# Altium footprint library Y001_Artix7_USB3.0_D0.PcbLib: 33 footprints (part 2 of 3)
Each footprint in its own frame and in the unit in brackets; x right, y up, seen from the top. Pads: shape width x height; smd on the part's side, far side on the other; paste and mask are expansions set on the pad; w line width, h text height; cw(c..) or ccw(c..) is an arc to the next point about the centre after c.
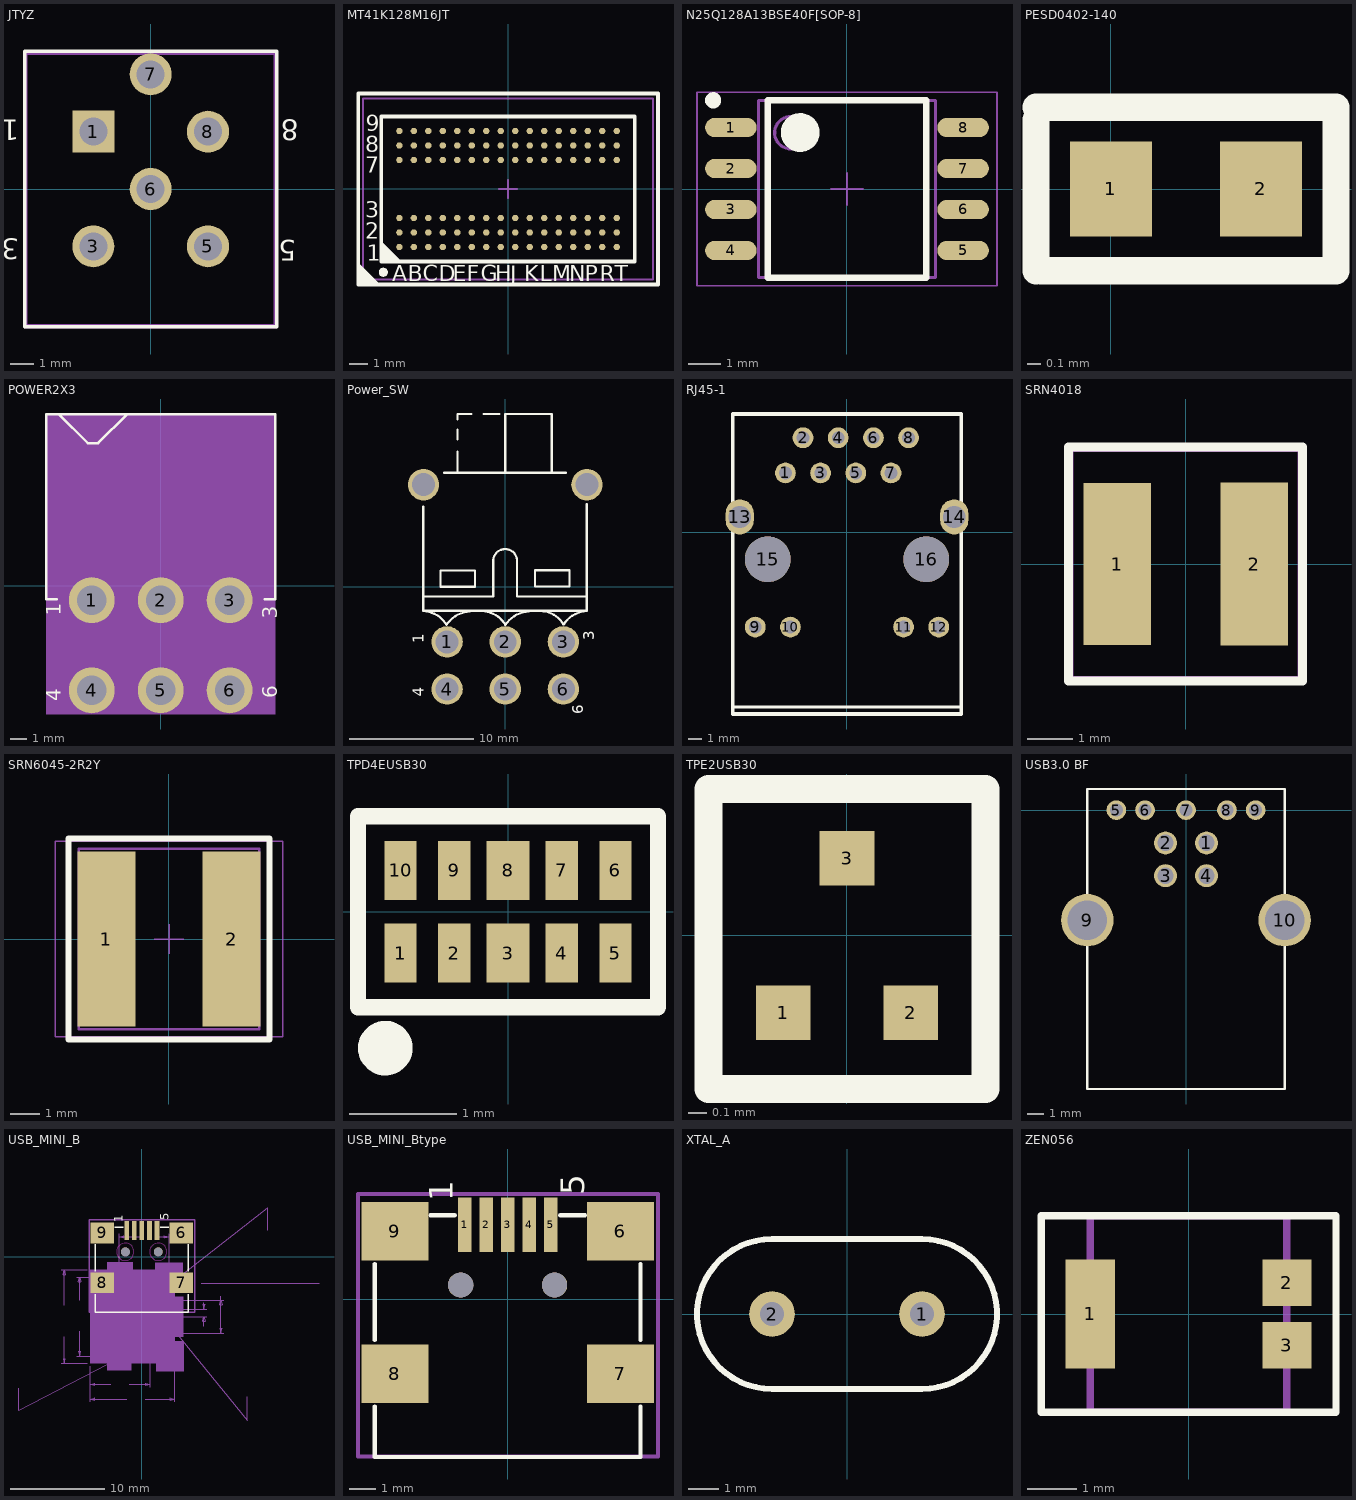
[diagram p1: the footprints below, top view; thin cyan lines are the x and y axes]

## JTYZ [mil]
pads (6):
  rect 72x72 hole 48: 1(-98.42,99.21)
  round 72 hole 48: 3(-98.42,-97.64) 5(98.43,-97.64) 6(0,0.79) 7(0,197.64) 8(98.43,99.21)
Top Overlay:
  lines w6: -216.53,-235.43 0,-235.43 216.54,-235.43 216.54,237.01 -216.53,237.01 -216.53,-235.43
  text "1" at -226,120 h35
  text "3" at -226,-85 h35
  text "5" at 250,-87 h35
  text "8" at 254,120 h35
Mechanical 15:
  lines w7.87: -215,-235 215,-235 215,235 -215,235 -215,-235

## MT41K128M16JT [mm]
pads (96):
  round 0.35 smd: A1(-6,-3.2) A2(-6,-2.4) A3(-6,-1.6) A7(-6,1.6) A8(-6,2.4) A9(-6,3.2) B1(-5.2,-3.2) B2(-5.2,-2.4) B3(-5.2,-1.6) B7(-5.2,1.6) B8(-5.2,2.4) B9(-5.2,3.2) C1(-4.4,-3.2) C2(-4.4,-2.4) C3(-4.4,-1.6) C7(-4.4,1.6) C8(-4.4,2.4) C9(-4.4,3.2) D1(-3.6,-3.2) D2(-3.6,-2.4) D3(-3.6,-1.6) D7(-3.6,1.6) D8(-3.6,2.4) D9(-3.6,3.2) E1(-2.8,-3.2) E2(-2.8,-2.4) E3(-2.8,-1.6) E7(-2.8,1.6) E8(-2.8,2.4) E9(-2.8,3.2) F1(-2,-3.2) F2(-2,-2.4) F3(-2,-1.6) F7(-2,1.6) F8(-2,2.4) F9(-2,3.2) G1(-1.2,-3.2) G2(-1.2,-2.4) G3(-1.2,-1.6) G7(-1.2,1.6) G8(-1.2,2.4) G9(-1.2,3.2) H1(-0.4,-3.2) H2(-0.4,-2.4) H3(-0.4,-1.6) H7(-0.4,1.6) H8(-0.4,2.4) H9(-0.4,3.2) J1(0.4,-3.2) J2(0.4,-2.4) J3(0.4,-1.6) J7(0.4,1.6) J8(0.4,2.4) J9(0.4,3.2) K1(1.2,-3.2) K2(1.2,-2.4) K3(1.2,-1.6) K7(1.2,1.6) K8(1.2,2.4) K9(1.2,3.2) L1(2,-3.2) L2(2,-2.4) L3(2,-1.6) L7(2,1.6) L8(2,2.4) L9(2,3.2) M1(2.8,-3.2) M2(2.8,-2.4) M3(2.8,-1.6) M7(2.8,1.6) M8(2.8,2.4) M9(2.8,3.2) N1(3.6,-3.2) N2(3.6,-2.4) N3(3.6,-1.6) N7(3.6,1.6) N8(3.6,2.4) N9(3.6,3.2) P1(4.4,-3.2) P2(4.4,-2.4) P3(4.4,-1.6) P7(4.4,1.6) P8(4.4,2.4) P9(4.4,3.2) R1(5.2,-3.2) R2(5.2,-2.4) R3(5.2,-1.6) R7(5.2,1.6) R8(5.2,2.4) R9(5.2,3.2) T1(6,-3.2) T2(6,-2.4) T3(6,-1.6) T7(6,1.6) T8(6,2.4) T9(6,3.2)
Top Overlay:
  circle w0.25: c-6.883,-4.595 r0.125
  region: -7.01,-3.031 -6.01,-4.031 -7.01,-4.031
  region: -8.28,-4.224 -7.28,-5.224 -8.28,-5.224
  lines w0.2: -8.276,-4.187 -7.192,-5.27 -8.264,-5.27 -8.264,5.27 8.276,5.27 8.276,-5.27 -7.332,-5.27 ; -7,-3 -6,-4 ; -7,-4 7,-4 7,4 -7,4 -7,-4
  text "9" at -7.849,3.175 h0.89
  text "8" at -7.874,2.032 h0.89
  text "7" at -7.874,0.889 h0.89
  text "3" at -7.874,-1.575 h0.89
  text "2" at -7.874,-2.743 h0.89
  text "1" at -7.798,-3.962 h0.89
  text "A" at -6.401,-5.08 h0.89
  text "B" at -5.544,-5.1 h0.89
  text "C" at -4.694,-5.1 h0.89
  text "D" at -3.817,-5.1 h0.89
  text "E" at -3.043,-5.1 h0.89
  text "F" at -2.268,-5.1 h0.89
  text "G" at -1.519,-5.1 h0.89
  text "H" at -0.719,-5.1 h0.89
  text "J" at 0.114,-5.125 h0.89
  text "K" at 0.881,-5.1 h0.89
  text "L" at 1.757,-5.1 h0.89
  text "M" at 2.439,-5.1 h0.89
  text "N" at 3.382,-5.1 h0.89
  text "P" at 4.232,-5.1 h0.89
  text "R" at 5.065,-5.1 h0.89
  text "T" at 5.884,-5.1 h0.89
Mechanical 13:
  lines w0.1: 7,-4 -7,-4 ; 7,4 -7,4 ; -7,-4 -7,4 ; -7,-4 -7,4
Mechanical 15:
  lines w0.1: -0.5,0 0.5,0 ; 0,-0.5 0,0.5 ; -8,-5 8,-5 8,5 -8,5 -8,-5
3D body: height 1.1, standoff 0, extent -7.01,-3.988 6.985,4.013

## N25Q128A13BSE40F[SOP-8] [mm]
pads (8):
  oval 1.6x0.6 smd: 1(-3.6,1.905) 2(-3.6,0.635) 3(-3.6,-0.635) 4(-3.6,-1.905) 5(3.6,-1.905) 6(3.6,-0.635) 7(3.6,0.635) 8(3.6,1.905)
Top Overlay:
  circle w0.6: c-1.45,1.75 r0.3
  circle w0.25: c-4.15,2.75 r0.125
  lines w0.2: -2.45,-2.75 -2.45,2.75 2.45,2.75 2.45,-2.75 -2.45,-2.75
Mechanical 15:
  circle w0.1: c-1.745,1.745 r0.5
  lines w0.1: -2.745,-2.745 -2.745,2.745 2.745,2.745 2.745,-2.745 -2.745,-2.745
Mechanical 20:
  lines w0.05: -0.5,0 0.5,0 ; 0,-0.5 0,0.5 ; -4.65,-3 -4.65,3 4.65,3 4.65,-3 -4.65,-3
Mechanical 21:
  lines w0.001: -2.745,-2.745 -2.745,2.745 2.745,2.745 2.745,-2.745 -2.745,-2.745

## PESD0402-140 [mm]
pads (2):
  rect 0.6x0.7 smd: 1(0,0) 2(1.1,0)
Top Overlay:
  lines w0.2: -0.55,-0.6 -0.55,0.508 ; -0.55,0.6 1.651,0.6 1.651,-0.6 -0.508,-0.6

## POWER2X3 [mil]
pads (6):
  round 110 hole 71: 1(-165.35,-35.09) 2(0,-35.09) 3(165.35,-35.09) 4(-165.35,-251.63) 5(0,-251.63) 6(165.35,-251.63)
Top Overlay:
  lines w6: -250,-33.37 -275,-33.37 -275,411.63 275,411.63 275,-33.37 250,-33.37 ; -245,411.63 -175,341.63 -150,341.63 -80,411.63
  text "6" at 280,-270 h35
  text "4" at -240,-277.37 h35
  text "3" at 280,-80 h35
  text "1" at -240,-72.36 h35
Mechanical 32:
  pour cut-out: 275,-308.37 275,411.63 -275,411.63 -275,-308.37
  region: 275,-308.37 275,411.63 -275,411.63 -275,-308.37
  text ".Designator" at -100,-403.37 h50
  text "3" at 165.35,-55.09 h50
  text "6" at 165.35,-271.63 h50
  text "4" at -165.35,-271.63 h50
  text "1" at -165.35,-55.09 h50
  text "2" at 0,-55.09 h50
  text "5" at 0,-271.63 h50

## Power_SW [mil]
pads (8):
  round 100 hole 73: 1(-185,-175) 2(0,-175) 3(185,-175) 4(-185,-325) 5(0,-325) 6(185,-325) " "(-260,325) " "(260,325)
Top Overlay:
  lines w7: -260.77,256.1 -260.77,-75.97 259.6,-75.97 259.6,262.82 ; -260.65,-30.36 -38.04,-30.36 -38.04,85.72 cw(c-0.2,82.43) 37.63,85.72 37.63,-30.36 258.77,-30.36 ; -251.66,-78.67 cw(c-260.44,-162.34) -187.01,-121.28 cw(c-106.45,-174.11) -112.07,-77.94 ; -194.88,363.09 193.72,363.09 ; -151.85,363.09 -151.85,430.32 ; -151.85,469.32 -151.85,500.25 ; -151.85,532.52 -151.85,550 -107.48,550 ; -68.48,550 -18.73,550 ; -64.32,-78.67 cw(c-73.09,-162.34) 0.34,-121.28 cw(c80.9,-174.11) 75.27,-77.94 ; 0.09,363.09 0.09,550 148,550 148,364.44 ; 120.65,-77.38 cw(c111.87,-161.05) 185.3,-119.99 cw(c265.86,-172.81) 260.24,-76.64 ; -206.28,0.5 -206.28,51.93 -96.08,51.93 -96.08,0.5 -206.28,0.5 ; 94.37,1.41 94.37,52.84 204.58,52.84 204.58,1.41 94.37,1.41
  text "3" at 283.31,-169.44 h35
  text "6" at 248.31,-404.44 h35
  text "1" at -260,-180 h35
  text "4" at -260,-350.33 h35

## RJ45-1 [mm]
pads (16):
  round 1.5 hole 0.914: 1(-4.445,4.293) 2(-3.175,6.833) 3(-1.905,4.293) 4(-0.635,6.833) 5(0.635,4.293) 6(1.905,6.833) 7(3.175,4.293) 8(4.445,6.833) 9(-6.625,-6.832) 10(-4.085,-6.832) 11(4.085,-6.832) 12(6.625,-6.832)
  oval 2.032x2.54 hole 1.6: 13(-7.745,1.118) 14(7.745,1.118)
  round 3.3 hole 3.3: 15(-5.715,-1.932) 16(5.715,-1.932)
Top Overlay:
  lines w0.2: -8.255,-12.6 8.255,-12.6
  lines w0.254: -8.255,8.482 -8.255,-13.108 8.255,-13.108 8.255,8.482 ; -8.255,8.548 8.255,8.548
3D body: height 13.51, standoff -3.99, extent -7.879,-12.732 8.001,8.668

## SRN4018 [mm]
pads (2):
  rect 1.5x3.6 smd: 1(-1.525,0)
  rect 1.5x3.63 smd: 2(1.525,0)
Top Overlay:
  lines w0.2: -2.6,-2.6 -2.6,2.6 2.6,2.6 2.6,-2.6 -2.6,-2.6
Mechanical 15:
  lines w0.1: -2.54,-2.54 -2.54,2.54 2.54,2.54 2.54,-2.54 -2.54,-2.54

## SRN6045-2R2Y [mm]
pads (2):
  rect 2x6 smd: 1(-2.15,0) 2(2.15,0)
Top Overlay:
  lines w0.2: -3.45,-3.45 -3.45,3.45 3.45,3.45 3.45,-3.45 -3.45,-3.45
Mechanical 15:
  lines w0.1: -3.1,-3.1 -3.1,3.1 3.1,3.1 3.1,-3.1 -3.1,-3.1
Mechanical 20:
  lines w0.05: -0.5,0 0.5,0 ; 0,-0.5 0,0.5 ; -3.9,-3.35 -3.9,3.35 3.9,3.35 3.9,-3.35 -3.9,-3.35
Mechanical 21:
  lines w0.001: -3.1,-3.1 -3.1,3.1 3.1,3.1 3.1,-3.1 -3.1,-3.1

## TPD4EUSB30 [mm]
pads (10):
  rect 0.3x0.55 smd: 1(-1,-0.385) 2(-0.5,-0.385) 4(0.5,-0.385) 5(1,-0.385) 6(1,0.385) 7(0.5,0.385) 9(-0.5,0.385) 10(-1,0.385)
  rect 0.4x0.55 smd: 3(0,-0.385) 8(0,0.385)
Top Overlay:
  circle w0.254: c-1.143,-1.27 r0.127
  lines w0.152: -1.397,-0.889 -1.397,0.889 1.397,0.889 1.397,-0.889 -1.397,-0.889

## TPE2USB30 [mm]
pads (3):
  rect 0.3x0.3 smd: 1(-0.35,-0.425) 2(0.35,-0.425) 3(0,0.425)
Top Overlay:
  lines w0.152: -0.762,-0.845 -0.762,0.806 0.762,0.806 0.762,-0.845 -0.762,-0.845

## USB3.0 BF [mm]
pads (11):
  round 1.4 hole 1: 1(1.25,-2) 2(-1.25,-2) 3(-1.25,-4) 4(1.25,-4)
  round 1.2 hole 0.8: 5(-4.25,0) 6(-2.5,0) 7(0,0) 8(2.5,0) 9(4.25,0)
  round 3.2 hole 2.4: 9(-6.02,-6.71) 10(6.02,-6.71)
Top Overlay:
  lines w0.152: -6.02,-17.01 -6.02,1.29 6.02,1.29 6.02,-17.01 -6.02,-17.01
3D body: height 12.95, standoff -3.18, extent -7.2,-17.157 7.2,1.143

## USB_MINI_B [mil]
pads (11):
  rect 20x80 smd: 1(-62.99,109.25) 2(-31.5,109.25) 3(0,109.25) 4(31.5,109.25) 5(62.99,109.25)
  rect 98x86 smd: 6(165.35,99.41) 7(165.35,-109.25) 8(-165.35,-109.25) 9(-165.35,99.41)
  round 37 hole 37: " "(-68.9,20.67) " "(68.9,20.67)
Top Overlay:
  lines w6: -194.88,-157.41 -194.88,-231.3 194.88,-231.3 194.88,-157.29 ; -194.88,-59.85 -194.88,51.66 ; -113.3,123.03 -77.62,123.03 ; 77.13,123.03 113.22,123.03 ; 194.88,-60.21 194.88,51.39
  text "5" at 111.98,152.57 h35
  text "1" at -80.4,143.87 h35
Mechanical 15:
  lines w6: -219.5,-231.12 220.5,-231.12 220.5,153.88 -219.5,153.88 -219.5,-231.12
Mechanical 16:
  lines w0.39: 247.94,-110 740.06,-110
Multi-Layer keep-out:
  circle w1: c68.9,20.67 r35.98
  circle w1: c68.9,20.67 r35.98
  circle w1: c-68.9,20.67 r35.98
  circle w1: c-68.9,20.67 r35.98
Mechanical 27:
  text "EDGE" at 661.32,-137.56 h20
  text "PCB" at 249.91,-137.56 h20
  text "1" at 541.24,29.76 h20
  text "5" at 434.94,29.76 h20
Mechanical 32:
  region: -216.37,-444.82 -145.28,-444.82 -145.28,-474.76 -43.34,-474.76 -43.34,-444.82 60.86,-444.82 60.86,-477.48 174.12,-477.48 174.12,-353.34 138.04,-353.34 138.04,-333.41 173.21,-333.41 173.21,-166.24 138.04,-166.24 138.04,-146.76 171.4,-146.76 171.4,-24.44 55.42,-24.44 55.42,-55.15 -38.81,-55.15 -38.81,-23.53 -144.37,-23.53 -144.37,-55.15 -216.37,-55.15
  lines w1: -512.99,-549.62 -512.99,-640.17 -83.86,-417.73 ; -335.76,-444.88 -228.11,-444.88 ; -335.76,-55.12 -228.11,-55.12 ; -323.95,-333.81 -323.95,-444.88 ; -323.95,-202.91 -323.95,-55.12 ; -271.96,-415.35 -106.06,-415.35 ; -271.96,-84.65 -106.06,-84.65 ; -260.15,-311.94 -260.15,-415.35 ; -260.15,-181.03 -260.15,-84.65 ; -216.3,-606.43 -216.3,-456.69 -216.3,-544.45 ; -129.52,-532.65 -216.3,-532.65 ; -94.25,-72.84 -94.25,95.23 ; -63.91,-594.62 -216.3,-594.62 ; -51.77,-532.65 35.67,-532.65 ; -5.58,83.42 -94.25,83.42 ; 13.85,-594.62 138.03,-594.62 ; 35.67,-544.45 35.67,-330.7 ; 47.48,-318.9 342.2,-318.9 ; 47.48,-181.1 342.2,-181.1 ; 72.17,83.42 114.41,83.42 ; 114.41,-72.84 114.41,95.23 ; 136.06,-250 271.11,-250 ; 136.06,-218.5 271.11,-218.5 ; 138.03,-606.43 138.03,-375.03 ; 259.31,-289.37 259.31,-250 ; 259.31,-191.64 259.31,-218.5 ; 330.39,-164.3 330.39,-181.1 ; 441.38,-584.65 441.38,-683.07 140,-312.99 ; 525.65,110.5 525.65,204.98 36.84,-176.72 ; -323.95,-444.88 -319.03,-425.2 -328.87,-425.2 -323.95,-444.88 ; -323.95,-55.12 -328.87,-74.8 -319.03,-74.8 -323.95,-55.12 ; -260.15,-415.35 -255.23,-395.67 -265.07,-395.67 -260.15,-415.35 ; -260.15,-84.65 -265.07,-104.33 -255.23,-104.33 -260.15,-84.65 ; -216.3,-594.62 -196.61,-599.54 -196.61,-589.7 -216.3,-594.62 ; -216.3,-532.65 -196.61,-537.57 -196.61,-527.72 -216.3,-532.65 ; -94.25,83.42 -74.57,78.5 -74.57,88.34 -94.25,83.42 ; -83.86,-417.73 -103.6,-422.42 -99.07,-431.16 -83.86,-417.73 ; 35.67,-532.65 15.98,-527.72 15.98,-537.57 35.67,-532.65 ; 36.84,-176.72 55.39,-168.48 49.33,-160.72 36.84,-176.72 ; 114.41,83.42 94.72,88.34 94.72,78.5 114.41,83.42 ; 138.03,-594.62 118.35,-589.7 118.35,-599.54 138.03,-594.62 ; 140,-312.99 148.61,-331.36 156.25,-325.15 140,-312.99 ; 259.31,-250 254.39,-269.68 264.23,-269.68 259.31,-250 ; 259.31,-218.5 264.23,-198.82 254.39,-198.82 259.31,-218.5 ; 330.39,-318.9 335.32,-299.21 325.47,-299.21 330.39,-318.9 ; 330.39,-318.9 330.39,-181.1 ; 330.39,-181.1 325.47,-200.79 335.32,-200.79 330.39,-181.1
  text "9" at -40.58,-583.2 h31.1
  text "6.4" at -106.2,-490.52 h31.1
  text "9.9" at -339.5,-226.23 h31.1
  text "8.4" at -275.7,-204.36 h31.1
  text "3.5" at 314.84,-56.72 h31.1
  text "0.8" at 243.76,-84.06 h31.1
  text "5.3" at 17.74,125.55 h31.1
  text "Pad:rd37h37-np" at 363.14,-108.27 h31.1
  text "Pad:rec98x86" at -643.48,-375.98 h31.1
  text "Pad:rec20x80" at 305.34,-486.22 h31.1
  text "Dimension in mm" at 445.18,-124.02 h31.1
  text ".Designator" at -87.18,-248.06 h50
  text "9" at 94.41,-84.65 h50
  text "8" at -114.25,-84.65 h50
  text "6" at 94.41,-415.35 h50
  text "5" at 104.25,-312.99 h50
  text "7" at -114.25,-415.35 h50
  text "3" at 104.25,-250 h50
  text "2" at 104.25,-218.5 h50
  text "1" at 104.25,-187.01 h50
  text "4" at 104.25,-281.5 h50
3D body: height 194.88, standoff -3.94, extent -206.69,-231.3 206.69,99.41
3D body: height 118.11, standoff 0, extent 330.22,-163.54 657.78,61.65
3D body: height 118.11, standoff 0, extent 395.59,59.31 592.41,71.08

## USB_MINI_Btype [mil]
pads (11):
  rect 20x80 smd: 1(-62.99,109.25) 2(-31.5,109.25) 3(0,109.25) 4(31.5,109.25) 5(62.99,109.25)
  rect 98x86 smd: 6(165.35,99.41) 7(165.35,-109.25) 8(-165.35,-109.25) 9(-165.35,99.41)
  round 37 hole 37: " "(-68.9,20.67) " "(68.9,20.67)
Top Overlay:
  lines w6: -194.88,-157.41 -194.88,-231.3 194.88,-231.3 194.88,-157.29 ; -194.88,-59.85 -194.88,51.66 ; -113.3,123.03 -77.62,123.03 ; 77.13,123.03 113.22,123.03 ; 194.88,-60.21 194.88,51.39
  text "1" at -80.4,143.87 h35
  text "5" at 111.98,152.57 h35
Mechanical 15:
  lines w6: -219.5,-231.12 -219.5,153.88 220.5,153.88 220.5,-231.12 -219.5,-231.12

## XTAL_A [mil]
pads (2):
  round 60 hole 32: 1(98.42,0) 2(-98.42,0)
Top Overlay:
  lines w7.87: -98.43,-98.42 cw(c-98.42,0) -98.42,98.42 98.42,98.42 cw(c98.42,0) 98.42,-98.42 -98.42,-98.42

## ZEN056 [mm]
pads (3):
  rect 1x2.21 smd: 1(-2,0)
  rect 1x0.94 smd: 2(2,0.635) 3(2,-0.635)
Top Overlay:
  lines w0.152: -3,-2 -3,2 3,2 3,-2 -3,-2
Mechanical 15:
  lines w0.152: -2,-2 -2,2 2,2 2,-2 -2,-2